# Altium schematic symbol library R 0603 0.1% YAGEO.SchLib: 36 symbols
Pins are listed as number, name and electrical type; pins without a type are passive.

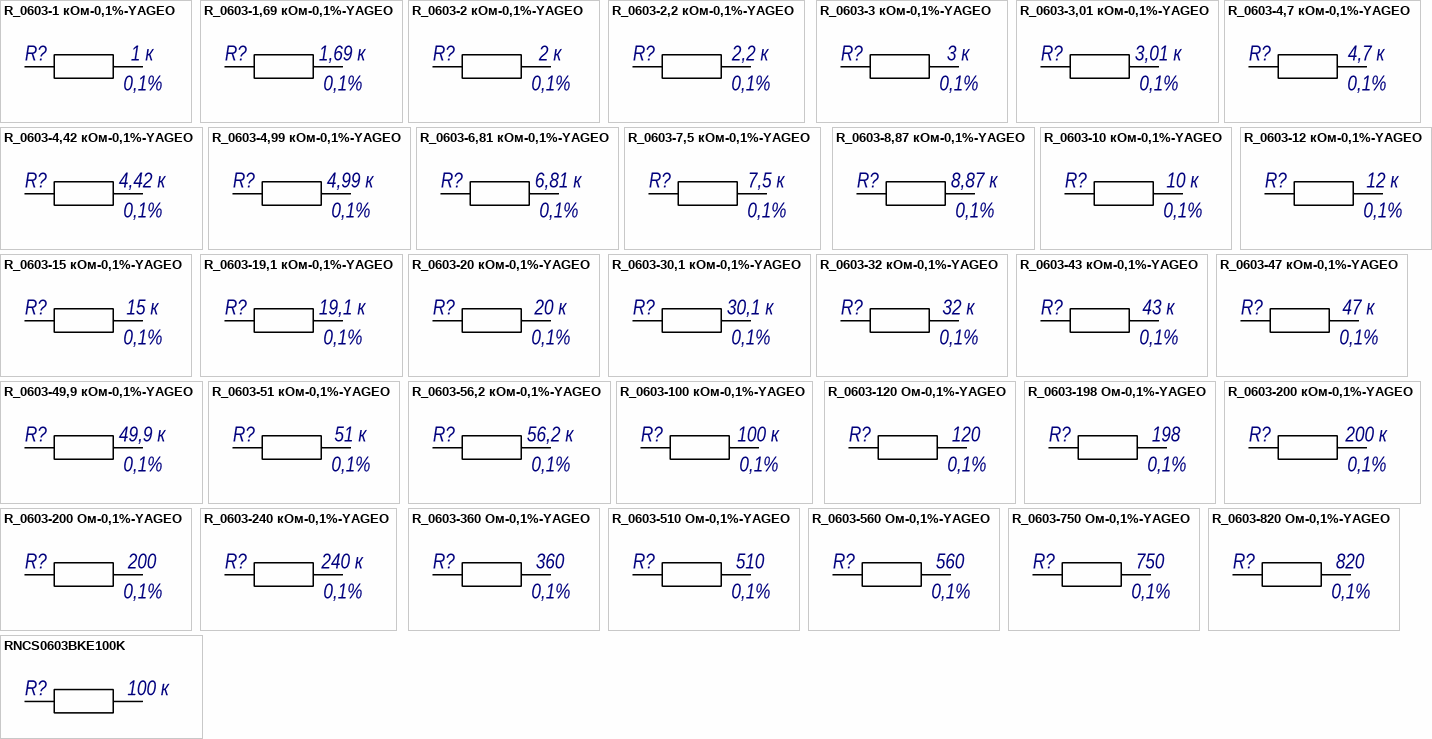
[diagram p0: symbols R_0603-1 кОм-0,1%-YAGEO to RNCS0603BKE100K]

## R_0603-1 кОм-0,1%-YAGEO
designator R?, comment value 1 к  Tol: 0,1%  (hidden comment: Резистор чип 0603-0,1 Вт-1 кОм ±0,1% фирма "YAGEO"-P\N-RT0603BRE071KL)
чип 0603-0,1 Вт-1 кОм ±0,1% фирма "YAGEO"; Power: 0,1 Вт; Manufacturer: фирма "YAGEO"; PartNumber: RT0603BRE071KL; Name: Резистор; TYP: чип 0603; GOST: Резистор чип 0603-0,1 Вт-1 кОм ±0,1% фирма "YAGEO"
footprint R0603_H05M (Dim 1.6mm*0.8mm H=0.45mm)
pins: 1, 2
1 alternate drawing of the same symbol

## R_0603-1,69 кОм-0,1%-YAGEO
designator R?, comment value 1,69 к  Tol: 0,1%  (hidden comment: Резистор чип 0603-0,1 Вт-1,69 кОм ±0,1% фирма "YAGEO"-P\N-RT0603BRD071K69L)
чип 0603-0,1 Вт-1,69 кОм ±0,1% фирма "YAGEO"; Power: 0,1 Вт; Manufacturer: фирма "YAGEO"; PartNumber: RT0603BRD071K69L; Name: Резистор; TYP: чип 0603; GOST: Резистор чип 0603-0,1 Вт-1,69 кОм ±0,1% фирма "YAGEO"
footprint R0603_H05M (Dim 1.6mm*0.8mm H=0.45mm)
pins: 1, 2
1 alternate drawing of the same symbol

## R_0603-2 кОм-0,1%-YAGEO
designator R?, comment value 2 к  Tol: 0,1%  (hidden comment: Резистор чип 0603-0,1 Вт-2 кОм ±0,1% фирма "YAGEO"-P\N-RT0603BRE072KL)
чип 0603-0,1 Вт-2 кОм ±0,1% фирма "YAGEO"; Power: 0,1 Вт; Manufacturer: фирма "YAGEO"; PartNumber: RT0603BRE072KL; Name: Резистор; TYP: чип 0603; GOST: Резистор чип 0603-0,1 Вт-2 кОм ±0,1% фирма "YAGEO"
footprint R0603_H05M (Dim 1.6mm*0.8mm H=0.45mm)
pins: 1, 2
1 alternate drawing of the same symbol

## R_0603-2,2 кОм-0,1%-YAGEO
designator R?, comment value 2,2 к  Tol: 0,1%  (hidden comment: Резистор чип 0603-0,1 Вт-2,2 кОм ±0,1% фирма "YAGEO"-P\N-RT0603BRE072K2L)
чип 0603-0,1 Вт-2,2 кОм ±0,1% фирма "YAGEO"; Power: 0,1 Вт; Manufacturer: фирма "YAGEO"; PartNumber: RT0603BRE072K2L; Name: Резистор; TYP: чип 0603; GOST: Резистор чип 0603-0,1 Вт-2,2 кОм ±0,1% фирма "YAGEO"
footprint R0603_H05M (Dim 1.6mm*0.8mm H=0.45mm)
pins: 1, 2
1 alternate drawing of the same symbol

## R_0603-3 кОм-0,1%-YAGEO
designator R?, comment value 3 к  Tol: 0,1%  (hidden comment: Резистор чип 0603-0,1 Вт-3 кОм ±0,1% фирма "YAGEO"-P\N-RT0603BRE073KL)
чип 0603-0,1 Вт-3 кОм ±0,1% фирма "YAGEO"; Power: 0,1 Вт; Manufacturer: фирма "YAGEO"; PartNumber: RT0603BRE073KL; Name: Резистор; TYP: чип 0603; GOST: Резистор чип 0603-0,1 Вт-3 кОм ±0,1% фирма "YAGEO"
footprint R0603_H05M (Dim 1.6mm*0.8mm H=0.45mm)
pins: 1, 2
1 alternate drawing of the same symbol

## R_0603-3,01 кОм-0,1%-YAGEO
designator R?, comment value 3,01 к  Tol: 0,1%  (hidden comment: Резистор чип 0603-0,1 Вт-3,01 кОм ±0,1% фирма "YAGEO"-P\N-RT0603BRE073K01L)
чип 0603-0,1 Вт-3,01 кОм ±0,1% фирма "YAGEO"; Power: 0,1 Вт; Manufacturer: фирма "YAGEO"; PartNumber: RT0603BRE073K01L; Name: Резистор; TYP: чип 0603; GOST: Резистор чип 0603-0,1 Вт-3,01 кОм ±0,1% фирма "YAGEO"
footprint R0603_H05M (Dim 1.6mm*0.8mm H=0.45mm)
pins: 1, 2
1 alternate drawing of the same symbol

## R_0603-4,7 кОм-0,1%-YAGEO
designator R?, comment value 4,7 к  Tol: 0,1%  (hidden comment: Резистор чип 0603-0,1 Вт-4,7 кОм ±0,1% фирма "YAGEO"-P\N-RT0603BRD074K7L)
чип 0603-0,1 Вт-4,7 кОм ±0,1% фирма "YAGEO"; Power: 0,1 Вт; Manufacturer: фирма "YAGEO"; PartNumber: RT0603BRD074K7L; Name: Резистор; TYP: чип 0603; GOST: Резистор чип 0603-0,1 Вт-4,7 кОм ±0,1% фирма "YAGEO"
footprint R0603_H05M (Dim 1.6mm*0.8mm H=0.45mm)
pins: 1, 2
1 alternate drawing of the same symbol

## R_0603-4,42 кОм-0,1%-YAGEO
designator R?, comment value 4,42 к  Tol: 0,1%  (hidden comment: Резистор чип 0603-0,1 Вт-4,42 кОм ±0,1% фирма "YAGEO"-P\N-RT0603BRD074K42L)
чип 0603-0,1 Вт-4,42 кОм ±0,1% фирма "YAGEO"; Power: 0,1 Вт; Manufacturer: фирма "YAGEO"; PartNumber: RT0603BRD074K42L; Name: Резистор; TYP: чип 0603; GOST: Резистор чип 0603-0,1 Вт-4,42 кОм ±0,1% фирма "YAGEO"
footprint R0603_H05M (Dim 1.6mm*0.8mm H=0.45mm)
pins: 1, 2
1 alternate drawing of the same symbol

## R_0603-4,99 кОм-0,1%-YAGEO
designator R?, comment value 4,99 к  Tol: 0,1%  (hidden comment: Резистор чип 0603-0,1 Вт-4,99 кОм ±0,1% фирма "YAGEO"-P\N-RT0603BRD074K99L)
чип 0603-0,1 Вт-4,99 кОм ±0,1% фирма "YAGEO"; Power: 0,1 Вт; Manufacturer: фирма "YAGEO"; PartNumber: RT0603BRD074K99L; Name: Резистор; TYP: чип 0603; GOST: Резистор чип 0603-0,1 Вт-4,99 кОм ±0,1% фирма "YAGEO"
footprint R0603_H05M (Dim 1.6mm*0.8mm H=0.45mm)
pins: 1, 2
1 alternate drawing of the same symbol

## R_0603-6,81 кОм-0,1%-YAGEO
designator R?, comment value 6,81 к  Tol: 0,1%  (hidden comment: Резистор чип 0603-0,1 Вт-6,81 кОм ±0,1% фирма "YAGEO"-P\N-RT0603BRE076K81L)
чип 0603-0,1 Вт-6,81 кОм ±0,1% фирма "YAGEO"; Power: 0,1 Вт; Manufacturer: фирма "YAGEO"; PartNumber: RT0603BRE076K81L; Name: Резистор; TYP: чип 0603; GOST: Резистор чип 0603-0,1 Вт-6,81 кОм ±0,1% фирма "YAGEO"
footprint R0603_H05M (Dim 1.6mm*0.8mm H=0.45mm)
pins: 1, 2
1 alternate drawing of the same symbol

## R_0603-7,5 кОм-0,1%-YAGEO
designator R?, comment value 7,5 к  Tol: 0,1%  (hidden comment: Резистор чип 0603-0,1 Вт-7,5 кОм ±0,1% фирма "YAGEO"-P\N-RT0603BRD077K5L)
чип 0603-0,1 Вт-7,5 кОм ±0,1% фирма "YAGEO"; Power: 0,1 Вт; Manufacturer: фирма "YAGEO"; PartNumber: RT0603BRD077K5L; Name: Резистор; TYP: чип 0603; GOST: Резистор чип 0603-0,1 Вт-7,5 кОм ±0,1% фирма "YAGEO"
footprint R0603_H05M (Dim 1.6mm*0.8mm H=0.45mm)
pins: 1, 2
1 alternate drawing of the same symbol

## R_0603-8,87 кОм-0,1%-YAGEO
designator R?, comment value 8,87 к  Tol: 0,1%  (hidden comment: Резистор чип 0603-0,1 Вт-8,87 кОм ±0,1% фирма "YAGEO"-P\N-RT0603BRD078K87L)
чип 0603-0,1 Вт-8,87 кОм ±0,1% фирма "YAGEO"; Power: 0,1 Вт; Manufacturer: фирма "YAGEO"; PartNumber: RT0603BRD078K87L; Name: Резистор; TYP: чип 0603; GOST: Резистор чип 0603-0,1 Вт-8,87 кОм ±0,1% фирма "YAGEO"
footprint R0603_H05M (Dim 1.6mm*0.8mm H=0.45mm)
pins: 1, 2
1 alternate drawing of the same symbol

## R_0603-10 кОм-0,1%-YAGEO
designator R?, comment value 10 к  Tol: 0,1%  (hidden comment: Резистор чип 0603-0,1 Вт-10 кОм ±0,1% фирма "YAGEO"-P\N-RT0603BRD0710KL)
чип 0603-0,1 Вт-10 кОм ±0,1% фирма "YAGEO"; Power: 0,1 Вт; Manufacturer: фирма "YAGEO"; PartNumber: RT0603BRD0710KL; Name: Резистор; TYP: чип 0603; GOST: Резистор чип 0603-0,1 Вт-10 кОм ±0,1% фирма "YAGEO"
footprint R0603_H05M (Dim 1.6mm*0.8mm H=0.45mm)
pins: 1, 2
1 alternate drawing of the same symbol

## R_0603-12 кОм-0,1%-YAGEO
designator R?, comment value 12 к  Tol: 0,1%  (hidden comment: Резистор чип 0603-0,1 Вт-12 кОм ±0,1% фирма "YAGEO"-P\N-RT0603BRD0712KL)
чип 0603-0,1 Вт-12 кОм ±0,1% фирма "YAGEO"; Power: 0,1 Вт; Manufacturer: фирма "YAGEO"; PartNumber: RT0603BRD0712KL; Name: Резистор; TYP: чип 0603; GOST: Резистор чип 0603-0,1 Вт-12 кОм ±0,1% фирма "YAGEO"
footprint R0603_H05M (Dim 1.6mm*0.8mm H=0.45mm)
pins: 1, 2
1 alternate drawing of the same symbol

## R_0603-15 кОм-0,1%-YAGEO
designator R?, comment value 15 к  Tol: 0,1%  (hidden comment: Резистор чип 0603-0,1 Вт-15 кОм ±0,1% фирма "YAGEO"-P\N-RT0603BRD0715KL)
чип 0603-0,1 Вт-15 кОм ±0,1% фирма "YAGEO"; Power: 0,1 Вт; Manufacturer: фирма "YAGEO"; PartNumber: RT0603BRD0715KL; Name: Резистор; TYP: чип 0603; GOST: Резистор чип 0603-0,1 Вт-15 кОм ±0,1% фирма "YAGEO"
footprint R0603_H05M (Dim 1.6mm*0.8mm H=0.45mm)
pins: 1, 2
1 alternate drawing of the same symbol

## R_0603-19,1 кОм-0,1%-YAGEO
designator R?, comment value 19,1 к  Tol: 0,1%  (hidden comment: Резистор чип 0603-0,1 Вт-19,1 кОм ±0,1% фирма "YAGEO"-P\N-RT0603BRD0719K1L)
чип 0603-0,1 Вт-19,1 кОм ±0,1% фирма "YAGEO"; Power: 0,1 Вт; Manufacturer: фирма "YAGEO"; PartNumber: RT0603BRD0719K1L; Name: Резистор; TYP: чип 0603; GOST: Резистор чип 0603-0,1 Вт-19,1 кОм ±0,1% фирма "YAGEO"
footprint R0603_H05M (Dim 1.6mm*0.8mm H=0.45mm)
pins: 1, 2
1 alternate drawing of the same symbol

## R_0603-20 кОм-0,1%-YAGEO
designator R?, comment value 20 к  Tol: 0,1%  (hidden comment: Резистор чип 0603-0,1 Вт-20 кОм ±0,1% фирма "YAGEO"-P\N-RT0603BRD0720KL)
чип 0603-0,1 Вт-20 кОм ±0,1% фирма "YAGEO"; Power: 0,1 Вт; Manufacturer: фирма "YAGEO"; PartNumber: RT0603BRD0720KL; Name: Резистор; TYP: чип 0603; GOST: Резистор чип 0603-0,1 Вт-20 кОм ±0,1% фирма "YAGEO"
footprint R0603_H05M (Dim 1.6mm*0.8mm H=0.45mm)
pins: 1, 2
1 alternate drawing of the same symbol

## R_0603-30,1 кОм-0,1%-YAGEO
designator R?, comment value 30,1 к  Tol: 0,1%  (hidden comment: Резистор чип 0603-0,1 Вт-30,1 кОм ±0,1% фирма "YAGEO"-P\N-RT0603BRE0730K1L)
чип 0603-0,1 Вт-30,1 кОм ±0,1% фирма "YAGEO"; Power: 0,1 Вт; Manufacturer: фирма "YAGEO"; PartNumber: RT0603BRE0730K1L; Name: Резистор; TYP: чип 0603; GOST: Резистор чип 0603-0,1 Вт-30,1 кОм ±0,1% фирма "YAGEO"
footprint R0603_H05M (Dim 1.6mm*0.8mm H=0.45mm)
pins: 1, 2
1 alternate drawing of the same symbol

## R_0603-32 кОм-0,1%-YAGEO
designator R?, comment value 32 к  Tol: 0,1%  (hidden comment: Резистор чип 0603-0,1 Вт-32 кОм ±0,1% фирма "YAGEO"-P\N-RT0603BRD0732KL)
чип 0603-0,1 Вт-32 кОм ±0,1% фирма "YAGEO"; Power: 0,1 Вт; Manufacturer: фирма "YAGEO"; PartNumber: RT0603BRD0732KL; Name: Резистор; TYP: чип 0603; GOST: Резистор чип 0603-0,1 Вт-32 кОм ±0,1% фирма "YAGEO"
footprint R0603_H05M (Dim 1.6mm*0.8mm H=0.45mm)
pins: 1, 2
1 alternate drawing of the same symbol

## R_0603-43 кОм-0,1%-YAGEO
designator R?, comment value 43 к  Tol: 0,1%  (hidden comment: Резистор чип 0603-0,1 Вт-43 кОм ±0,1% фирма "YAGEO"-P\N-RT0603BRD0743KL)
чип 0603-0,1 Вт-43 кОм ±0,1% фирма "YAGEO"; Power: 0,1 Вт; Manufacturer: фирма "YAGEO"; PartNumber: RT0603BRD0743KL; Name: Резистор; TYP: чип 0603; GOST: Резистор чип 0603-0,1 Вт-43 кОм ±0,1% фирма "YAGEO"
footprint R0603_H05M (Dim 1.6mm*0.8mm H=0.45mm)
pins: 1, 2
1 alternate drawing of the same symbol

## R_0603-47 кОм-0,1%-YAGEO
designator R?, comment value 47 к  Tol: 0,1%  (hidden comment: Резистор чип 0603-0,1 Вт-47 кОм ±0,1% фирма "YAGEO"-P\N-RT0603BRD0747KL)
чип 0603-0,1 Вт-47 кОм ±0,1% фирма "YAGEO"; Power: 0,1 Вт; Manufacturer: фирма "YAGEO"; PartNumber: RT0603BRD0747KL; Name: Резистор; TYP: чип 0603; GOST: Резистор чип 0603-0,1 Вт-47 кОм ±0,1% фирма "YAGEO"
footprint R0603_H05M (Dim 1.6mm*0.8mm H=0.45mm)
pins: 1, 2
1 alternate drawing of the same symbol

## R_0603-49,9 кОм-0,1%-YAGEO
designator R?, comment value 49,9 к  Tol: 0,1%  (hidden comment: Резистор чип 0603-0,1 Вт-49,9 кОм ±0,1% фирма "YAGEO"-P\N-RT0603BRD0749K9L)
чип 0603-0,1 Вт-49,9 кОм ±0,1% фирма "YAGEO"; Power: 0,1 Вт; Manufacturer: фирма "YAGEO"; PartNumber: RT0603BRD0749K9L; Name: Резистор; TYP: чип 0603; GOST: Резистор чип 0603-0,1 Вт-49,9 кОм ±0,1% фирма "YAGEO"
footprint R0603_H05M (Dim 1.6mm*0.8mm H=0.45mm)
pins: 1, 2
1 alternate drawing of the same symbol

## R_0603-51 кОм-0,1%-YAGEO
designator R?, comment value 51 к  Tol: 0,1%  (hidden comment: Резистор чип 0603-0,1 Вт-51 кОм ±0,1% фирма "YAGEO"-P\N-RT0603BRD0751KL)
чип 0603-0,1 Вт-51 кОм ±0,1% фирма "YAGEO"; Power: 0,1 Вт; Manufacturer: фирма "YAGEO"; PartNumber: RT0603BRD0751KL; Name: Резистор; TYP: чип 0603; GOST: Резистор чип 0603-0,1 Вт-51 кОм ±0,1% фирма "YAGEO"
footprint R0603_H05M (Dim 1.6mm*0.8mm H=0.45mm)
pins: 1, 2
1 alternate drawing of the same symbol

## R_0603-56,2 кОм-0,1%-YAGEO
designator R?, comment value 56,2 к  Tol: 0,1%  (hidden comment: Резистор чип 0603-0,1 Вт-56,2 кОм ±0,1% фирма "YAGEO"-P\N-RT0603BRD0756K2L)
чип 0603-0,1 Вт-56,2 кОм ±0,1% фирма "YAGEO"; Power: 0,1 Вт; Manufacturer: фирма "YAGEO"; PartNumber: RT0603BRD0756K2L; Name: Резистор; TYP: чип 0603; GOST: Резистор чип 0603-0,1 Вт-56,2 кОм ±0,1% фирма "YAGEO"
footprint R0603_H05M (Dim 1.6mm*0.8mm H=0.45mm)
pins: 1, 2
1 alternate drawing of the same symbol

## R_0603-100 кОм-0,1%-YAGEO
designator R?, comment value 100 к  Tol: 0,1%  (hidden comment: Резистор чип 0603-0,1 Вт-100 кОм ±0,1% фирма "YAGEO"-P\N-RT0603BRE07100KL)
чип 0603-0,1 Вт-100 кОм ±0,1% фирма "YAGEO"; Power: 0,1 Вт; Manufacturer: фирма "YAGEO"; PartNumber: RT0603BRE07100KL; Name: Резистор; TYP: чип 0603; GOST: Резистор чип 0603-0,1 Вт-100 кОм ±0,1% фирма "YAGEO"
footprint R0603_H05M (Dim 1.6mm*0.8mm H=0.45mm)
pins: 1, 2
1 alternate drawing of the same symbol

## R_0603-120 Ом-0,1%-YAGEO
designator R?, comment value 120  Tol: 0,1%  (hidden comment: Резистор чип 0603-0,1 Вт-120 Ом ±0,1% фирма "YAGEO"-P\N-RT0603BRD07120RL)
чип 0603-0,1 Вт-120 Ом ±0,1% фирма "YAGEO"; Power: 0,1 Вт; Manufacturer: фирма "YAGEO"; PartNumber: RT0603BRD07120RL; Name: Резистор; TYP: чип 0603; GOST: Резистор чип 0603-0,1 Вт-120 Ом ±0,1% фирма "YAGEO"
footprint R0603_H05M (Dim 1.6mm*0.8mm H=0.45mm)
pins: 1, 2
1 alternate drawing of the same symbol

## R_0603-198 Ом-0,1%-YAGEO
designator R?, comment value 198  Tol: 0,1%  (hidden comment: Резистор чип 0603-0,1 Вт-198 Ом ±0,1% фирма "YAGEO"-P\N-RT0603BRD07198RL)
чип 0603-0,1 Вт-198 Ом ±0,1% фирма "YAGEO"; Power: 0,1 Вт; Manufacturer: фирма "YAGEO"; PartNumber: RT0603BRD07198RL; Name: Резистор; TYP: чип 0603; GOST: Резистор чип 0603-0,1 Вт-198 Ом ±0,1% фирма "YAGEO"
footprint R0603_H05M (Dim 1.6mm*0.8mm H=0.45mm)
pins: 1, 2
1 alternate drawing of the same symbol

## R_0603-200 кОм-0,1%-YAGEO
designator R?, comment value 200 к  Tol: 0,1%  (hidden comment: Резистор чип 0603-0,1 Вт-200 кОм ±0,1% фирма "YAGEO"-P\N-RT0603BRD07200KL)
чип 0603-0,1 Вт-200 кОм ±0,1% фирма "YAGEO"; Power: 0,1 Вт; Manufacturer: фирма "YAGEO"; PartNumber: RT0603BRD07200KL; Name: Резистор; TYP: чип 0603; GOST: Резистор чип 0603-0,1 Вт-200 кОм ±0,1% фирма "YAGEO"
footprint R0603_H05M (Dim 1.6mm*0.8mm H=0.45mm)
pins: 1, 2
1 alternate drawing of the same symbol

## R_0603-200 Ом-0,1%-YAGEO
designator R?, comment value 200  Tol: 0,1%  (hidden comment: Резистор чип 0603-0,1 Вт-200 Ом ±0,1% фирма "YAGEO"-P\N-RT0603BRD07200RL)
чип 0603-0,1 Вт-200 Ом ±0,1% фирма "YAGEO"; Power: 0,1 Вт; Manufacturer: фирма "YAGEO"; PartNumber: RT0603BRD07200RL; Name: Резистор; TYP: чип 0603; GOST: Резистор чип 0603-0,1 Вт-200 Ом ±0,1% фирма "YAGEO"
footprint R0603_H05M (Dim 1.6mm*0.8mm H=0.45mm)
pins: 1, 2
1 alternate drawing of the same symbol

## R_0603-240 кОм-0,1%-YAGEO
designator R?, comment value 240 к  Tol: 0,1%  (hidden comment: Резистор чип 0603-0,1 Вт-240 кОм ±0,1% фирма "YAGEO"-P\N-RT0603BRD07240KL)
чип 0603-0,1 Вт-240 кОм ±0,1% фирма "YAGEO"; Power: 0,1 Вт; Manufacturer: фирма "YAGEO"; PartNumber: RT0603BRD07240KL; Name: Резистор; TYP: чип 0603; GOST: Резистор чип 0603-0,1 Вт-240 кОм ±0,1% фирма "YAGEO"
footprint R0603_H05M (Dim 1.6mm*0.8mm H=0.45mm)
pins: 1, 2
1 alternate drawing of the same symbol

## R_0603-360 Ом-0,1%-YAGEO
designator R?, comment value 360  Tol: 0,1%  (hidden comment: Резистор чип 0603-0,1 Вт-360 Ом ±0,1% фирма "YAGEO"-P\N-RT0603BRD07360RL)
чип 0603-0,1 Вт-360 Ом ±0,1% фирма "YAGEO"; Power: 0,1 Вт; Manufacturer: фирма "YAGEO"; PartNumber: RT0603BRD07360RL; Name: Резистор; TYP: чип 0603; GOST: Резистор чип 0603-0,1 Вт-360 Ом ±0,1% фирма "YAGEO"
footprint R0603_H05M (Dim 1.6mm*0.8mm H=0.45mm)
pins: 1, 2
1 alternate drawing of the same symbol

## R_0603-510 Ом-0,1%-YAGEO
designator R?, comment value 510  Tol: 0,1%  (hidden comment: Резистор чип 0603-0,1 Вт-510 Ом ±0,1% фирма "YAGEO"-P\N-RT0603BRD07510RL)
чип 0603-0,1 Вт-510 Ом ±0,1% фирма "YAGEO"; Power: 0,1 Вт; Manufacturer: фирма "YAGEO"; PartNumber: RT0603BRD07510RL; Name: Резистор; TYP: чип 0603; GOST: Резистор чип 0603-0,1 Вт-510 Ом ±0,1% фирма "YAGEO"
footprint R0603_H05M (Dim 1.6mm*0.8mm H=0.45mm)
pins: 1, 2
1 alternate drawing of the same symbol

## R_0603-560 Ом-0,1%-YAGEO
designator R?, comment value 560  Tol: 0,1%  (hidden comment: Резистор чип 0603-0,1 Вт-560 Ом ±0,1% фирма "YAGEO"-P\N-RT0603BRD07560RL)
чип 0603-0,1 Вт-560 Ом ±0,1% фирма "YAGEO"; Power: 0,1 Вт; Manufacturer: фирма "YAGEO"; PartNumber: RT0603BRD07560RL; Name: Резистор; TYP: чип 0603; GOST: Резистор чип 0603-0,1 Вт-560 Ом ±0,1% фирма "YAGEO"
footprint R0603_H05M (Dim 1.6mm*0.8mm H=0.45mm)
pins: 1, 2
1 alternate drawing of the same symbol

## R_0603-750 Ом-0,1%-YAGEO
designator R?, comment value 750  Tol: 0,1%  (hidden comment: Резистор чип 0603-0,1 Вт-750 Ом ±0,1% фирма "YAGEO"-P\N-RT0603BRD07750RL)
чип 0603-0,1 Вт-750 Ом ±0,1% фирма "YAGEO"; Power: 0,1 Вт; Manufacturer: фирма "YAGEO"; PartNumber: RT0603BRD07750RL; Name: Резистор; TYP: чип 0603; GOST: Резистор чип 0603-0,1 Вт-750 Ом ±0,1% фирма "YAGEO"
footprint R0603_H05M (Dim 1.6mm*0.8mm H=0.45mm)
pins: 1, 2
1 alternate drawing of the same symbol

## R_0603-820 Ом-0,1%-YAGEO
designator R?, comment value 820  Tol: 0,1%  (hidden comment: Резистор чип 0603-0,1 Вт-820 Ом ±0,1% фирма "YAGEO"-P\N-RT0603BRD07820RL)
чип 0603-0,1 Вт-820 Ом ±0,1% фирма "YAGEO"; Power: 0,1 Вт; Manufacturer: фирма "YAGEO"; PartNumber: RT0603BRD07820RL; Name: Резистор; TYP: чип 0603; GOST: Резистор чип 0603-0,1 Вт-820 Ом ±0,1% фирма "YAGEO"
footprint R0603_H05M (Dim 1.6mm*0.8mm H=0.45mm)
pins: 1, 2
1 alternate drawing of the same symbol

## RNCS0603BKE100K
designator R?, comment value 100 к  (hidden comment: Резистор чип RNCS0603BKE100K фирма "Stackpole Electronics")
чип 0603-0,063 Вт-100 кОм ±0.1% Anti-Corrosive, Automotive AEC-Q200, Moisture Resistant Thin Film; Tol: ±0,1%; Manufacturer: фирма "Stackpole Electronics"; PartNumber: RNCS0603BKE100K; Power: 0,063 Вт; Name: Резистор; TYP: чип 0603; GOST: Резистор чип RNCS0603BKE100K фирма "Stackpole Electronics"; Features: Anti-Corrosive, Automotive AEC-Q200, Moisture Resistant
footprint R0603_H05M (Dim 1.6mm*0.8mm H=0.45mm)
pins: 1, 2
1 alternate drawing of the same symbol